# Altium schematic symbol library SKTHAHE010.SchLib: 1 symbol
Pins are listed as number, name and electrical type; pins without a type are passive.

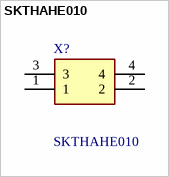
[diagram p0: symbol SKTHAHE010]

## SKTHAHE010
designator X?
Tactile Switches H 1.8mm, 3.0N; Manufacturer_Name: ALPS Electric; Geometry.Height: 2mm; Mouser Part Number: 688-SKTHAHE010; Mouser Price/Stock: https://www.mouser.co.uk/ProductDetail/Alps-Alpine/SKTHAHE010?qs=T3oQrply3y8NYoSxPHM%252Buw%3D%3D; Manufacturer_Part_Number: SKTHAHE010; Datasheet Link: https://tech.alpsalpine.com/e/products/detail/SKTHAHE010/
footprint SKTHAHE010
pins: 1, 2, 3, 4